# Altium schematic symbol library CSD17309Q3.SchLib: 1 symbol
Pins are listed as number, name and electrical type; pins without a type are passive.

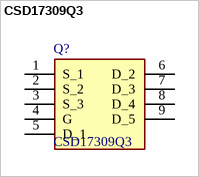
[diagram p0: symbol CSD17309Q3]

## CSD17309Q3
designator Q?
30V, N ch NexFET MOSFET, single SON3x3, 6.3mOhm; Manufacturer_Name: Texas Instruments; Geometry.Height: 1mm; Mouser Part Number: 595-CSD17309Q3; Mouser Price/Stock: https://www.mouser.co.uk/ProductDetail/Texas-Instruments/CSD17309Q3?qs=BmtUOLWBNQpJCCc0M%2FZkzw%3D%3D; Manufacturer_Part_Number: CSD17309Q3; Datasheet Link: http://www.ti.com/lit/gpn/csd17309q3
footprint CSD17309Q3
pins: 1 S_1, 2 S_2, 3 S_3, 4 G, 5 D_1, 6 D_2, 7 D_3, 8 D_4, 9 D_5